# Altium schematic symbol library BCP5616.Schlib: 1 symbol
Pins are listed as number, name and electrical type; pins without a type are passive.

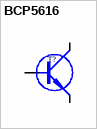
[diagram p0: symbol BCP5616]

## BCP5616
designator T?
pins: 1 B, 2 C (oc), 3 E (oe), 4 (oc)
1 alternate drawing of the same symbol